# Altium schematic symbol library TPS25982.SchLib: 1 symbol
Pins are listed as number, name and electrical type; pins without a type are passive.

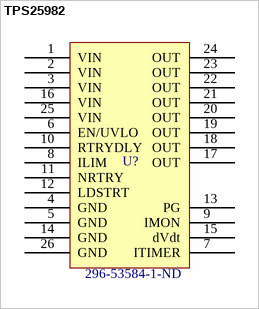
[diagram p0: symbol TPS25982]

## TPS25982
designator U?  Supplier Part Number 1: 296-53584-1-ND  (hidden comment: TPS25982)
2.7 - 24 V input supply, 15 A max load current; Manufacturer: Texas Instruments; Manufacturer Part Number: TPS259822LNRGER; Supplier 1: Digi-Key; Stock 1: 3000; Pricing 1: 1=3.96, 10=3.559, 100=2.9163, 500=2.48262, 1000=2.09378 (USD); ComponentLink1URL: https://octopart.com/click/track?ak=2673a2b2&ct=datasheets&sig=0dd3cb2&at=physicalpart&sid=370&ppid=103121101&hlid=28341978&src-supplier=TI+store; ComponentLink1Description: https://octopart.com/click/track?ak=2673a2b2&ct=datasheets&sig=0dd3cb2&at=physicalpart&sid=370&ppid=103121101&hlid=28341978&src-supplier=TI+store; ComponentLink2URL: http://sigma.octopart.com/102096900/technical_drawing/Texas-Instruments-TPS259822LNRGER.pdf?src-supplier=TI+store; ComponentLink2Description: http://sigma.octopart.com/102096900/technical_drawing/Texas-Instruments-TPS259822LNRGER.pdf?src-supplier=TI+store
footprint RGE0024M (eFuse)
pins: 1 VIN (power), 2 VIN (power), 3 VIN (power), 4 GND (power), 5 GND (power), 6 EN/UVLO, 7 ITIMER, 8 ILIM, 9 IMON, 10 RTRYDLY, 11 NRTRY, 12 LDSTRT, 13 PG, 14 GND (power), 15 dVdt, 16 VIN (power), 17 OUT (power), 18 OUT (power), 19 OUT (power), 20 OUT (power), 21 OUT (power), 22 OUT (power), 23 OUT (power), 24 OUT (power), 25 VIN (power), 26 GND (power)